# Altium schematic symbol library SS-5D.SchLib: 1 symbol
Pins are listed as number, name and electrical type; pins without a type are passive.

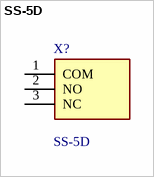
[diagram p0: symbol SS-5D]

## SS-5D
designator X?
Subminiature Basic Switch,  125VAC, 5A, SPDT, Pin Plunger, OF:max. 1.47N, PCB Terminal; Manufacturer_Name: OMRON Electronics; Geometry.Height: 11.9mm; Manufacturer_Part_Number: SS-5D; Mouser Part Number: 653-SS-5D; Mouser Price/Stock: https://www.mouser.co.uk/ProductDetail/Omron-Electronics/SS-5D/?qs=pWf36BUtxBh%252BlIUjzjOszg%3D%3D; Arrow Part Number: SS-5D; Arrow Price/Stock: https://www.arrow.com/en/products/ss5d/omron?region=europe; Datasheet Link: https://components.omron.com/us-en/sites/components.omron.com.us/files/datasheet_pdf/B032-E1.pdf
footprint SS5D
pins: 1 COM, 2 NO, 3 NC